# EAGLE library part DF40C-50DP-0.4V(51) (library Sala-Eng-Hirose)
Hirose DF40C-50DP-0.4V(51) Header 0.4mm pich 50 pin
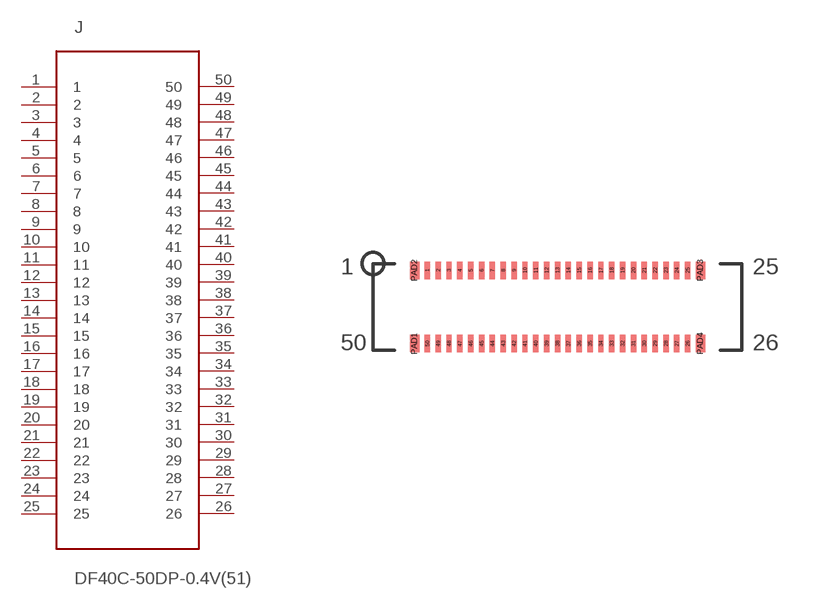
[diagram p3: symbol with the pads of DF40C-50DP-0.4V(51); footprint DF40C-50DP-0.4V(51)]

Designator prefix J

## DF40C-50DP-0.4V(51)  [DF40C-50DP-0.4V(51)]
1  1  pas
2  2  pas
3  3  pas
4  4  pas
5  5  pas
6  6  pas
7  7  pas
8  8  pas
9  9  pas
10  10  pas
11  11  pas
12  12  pas
13  13  pas
14  14  pas
15  15  pas
16  16  pas
17  17  pas
18  18  pas
19  19  pas
20  20  pas
21  21  pas
22  22  pas
23  23  pas
24  24  pas
25  25  pas
26  26  pas
27  27  pas
28  28  pas
29  29  pas
30  30  pas
31  31  pas
32  32  pas
33  33  pas
34  34  pas
35  35  pas
36  36  pas
37  37  pas
38  38  pas
39  39  pas
40  40  pas
41  41  pas
42  42  pas
43  43  pas
44  44  pas
45  45  pas
46  46  pas
47  47  pas
48  48  pas
49  49  pas
50  50  pas

## Footprint DF40C-50DP-0.4V(51) (pad centres in mm)
Hirose DF40C-50DP-0.4V(51) Header 0.4mm pich 50 pin
smd 0.2 x 0.65: 1 -4.8,1.35; 2 -4.4,1.35; 3 -4,1.35; 4 -3.6,1.35; 5 -3.2,1.35; 6 -2.8,1.35; 7 -2.4,1.35; 8 -2,1.35; 9 -1.6,1.35; 10 -1.2,1.35; 11 -0.8,1.35; 12 -0.4,1.35; 13 0,1.35; 14 0.4,1.35; 15 0.8,1.35; 16 1.2,1.35; 17 1.6,1.35; 18 2,1.35; 19 2.4,1.35; 20 2.8,1.35; 21 3.2,1.35; 22 3.6,1.35; 23 4,1.35; 24 4.4,1.35; 25 4.8,1.35; 26 4.8,-1.35; 27 4.4,-1.35; 28 4,-1.35; 29 3.6,-1.35; 30 3.2,-1.35; 31 2.8,-1.35; 32 2.4,-1.35; 33 2,-1.35; 34 1.6,-1.35; 35 1.2,-1.35; 36 0.8,-1.35; 37 0.4,-1.35; 38 0,-1.35; 39 -0.4,-1.35; 40 -0.8,-1.35; 41 -1.2,-1.35; 42 -1.6,-1.35; 43 -2,-1.35; 44 -2.4,-1.35; 45 -2.8,-1.35; 46 -3.2,-1.35; 47 -3.6,-1.35; 48 -4,-1.35; 49 -4.4,-1.35; 50 -4.8,-1.35
smd 0.35 x 0.65: PAD1 -5.27,-1.35; PAD2 -5.27,1.35; PAD3 5.27,1.35; PAD4 5.27,-1.35